# EAGLE library part CHIPCARD-ISO-7816 (library con-chipcard-iso7816)
Chip card connector ISO 7816
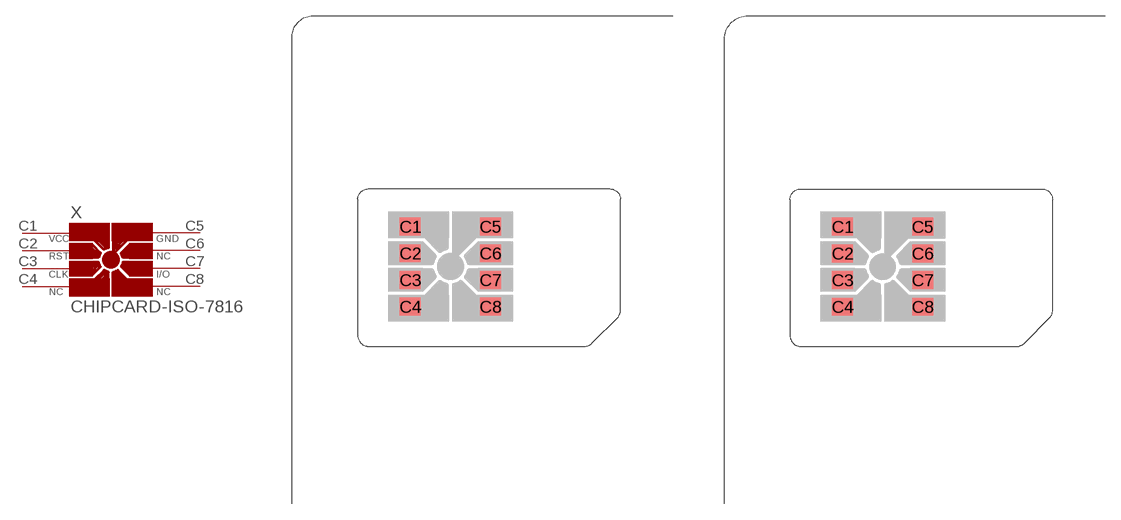
[diagram p0: symbol with the pads of ISO7816; footprints ISO7816, ISO-7816]

Designator prefix X

## CHIPCARD-ISO-7816 (OC_FARNELL: unknown; OC_NEWARK: unknown)  [ISO7816]
C1  VCC  pas
C2  RST  pas
C3  CLK  pas
C4  NC  pas
C5  GND  pas
C6  NC  pas
C7  I/O  pas
C8  NC  pas

## CHIPCARD-ISO-7816ISO (OC_FARNELL: unknown; OC_NEWARK: unknown)  [ISO-7816]
Pads as for ISO7816

## CHIPCARD-ISO-7816ANFOR (OC_FARNELL: unknown; OC_NEWARK: unknown)  [AFNOR-CHIPCARD]
Pads as for ISO7816

## Footprint ISO7816 (pad centres in mm)
ISO 7816 Chipcard
smd 2 x 1.7: C1 4.999,-3.599; C2 4.999,-6.138; C3 4.999,-8.683; C4 4.999,-11.222; C5 12.622,-3.6; C6 12.622,-6.14; C7 12.622,-8.68; C8 12.622,-11.222

## Footprint ISO-7816 (pad centres in mm)
ISO7816-1 Standard Chip Card Source: http://www.didya.com/iso-7816.asp
smd 2 x 1.7: C1 11.249,-20.099; C2 11.249,-22.638; C3 11.249,-25.183; C4 11.249,-27.722; C5 18.872,-20.1; C6 18.872,-22.64; C7 18.872,-25.18; C8 18.872,-27.722

## Footprint AFNOR-CHIPCARD (pad centres in mm)
AFNOR Chip Card Source: http://www.didya.com/iso-7816.asp
smd 2 x 1.7: C1 18.872,-17.541; C2 18.871,-15; C3 18.868,-12.457; C4 18.871,-9.92; C5 11.251,-17.542; C6 11.252,-15; C7 11.25,-12.459; C8 11.252,-9.92